# Altium footprint library EECS418_lib.PcbLib: 39 footprints (part 2 of 3)
Each footprint in its own frame and in the unit in brackets; x right, y up, seen from the top. Pads: shape width x height; smd on the part's side, far side on the other; paste and mask are expansions set on the pad; w line width, h text height; cw(c..) or ccw(c..) is an arc to the next point about the centre after c.
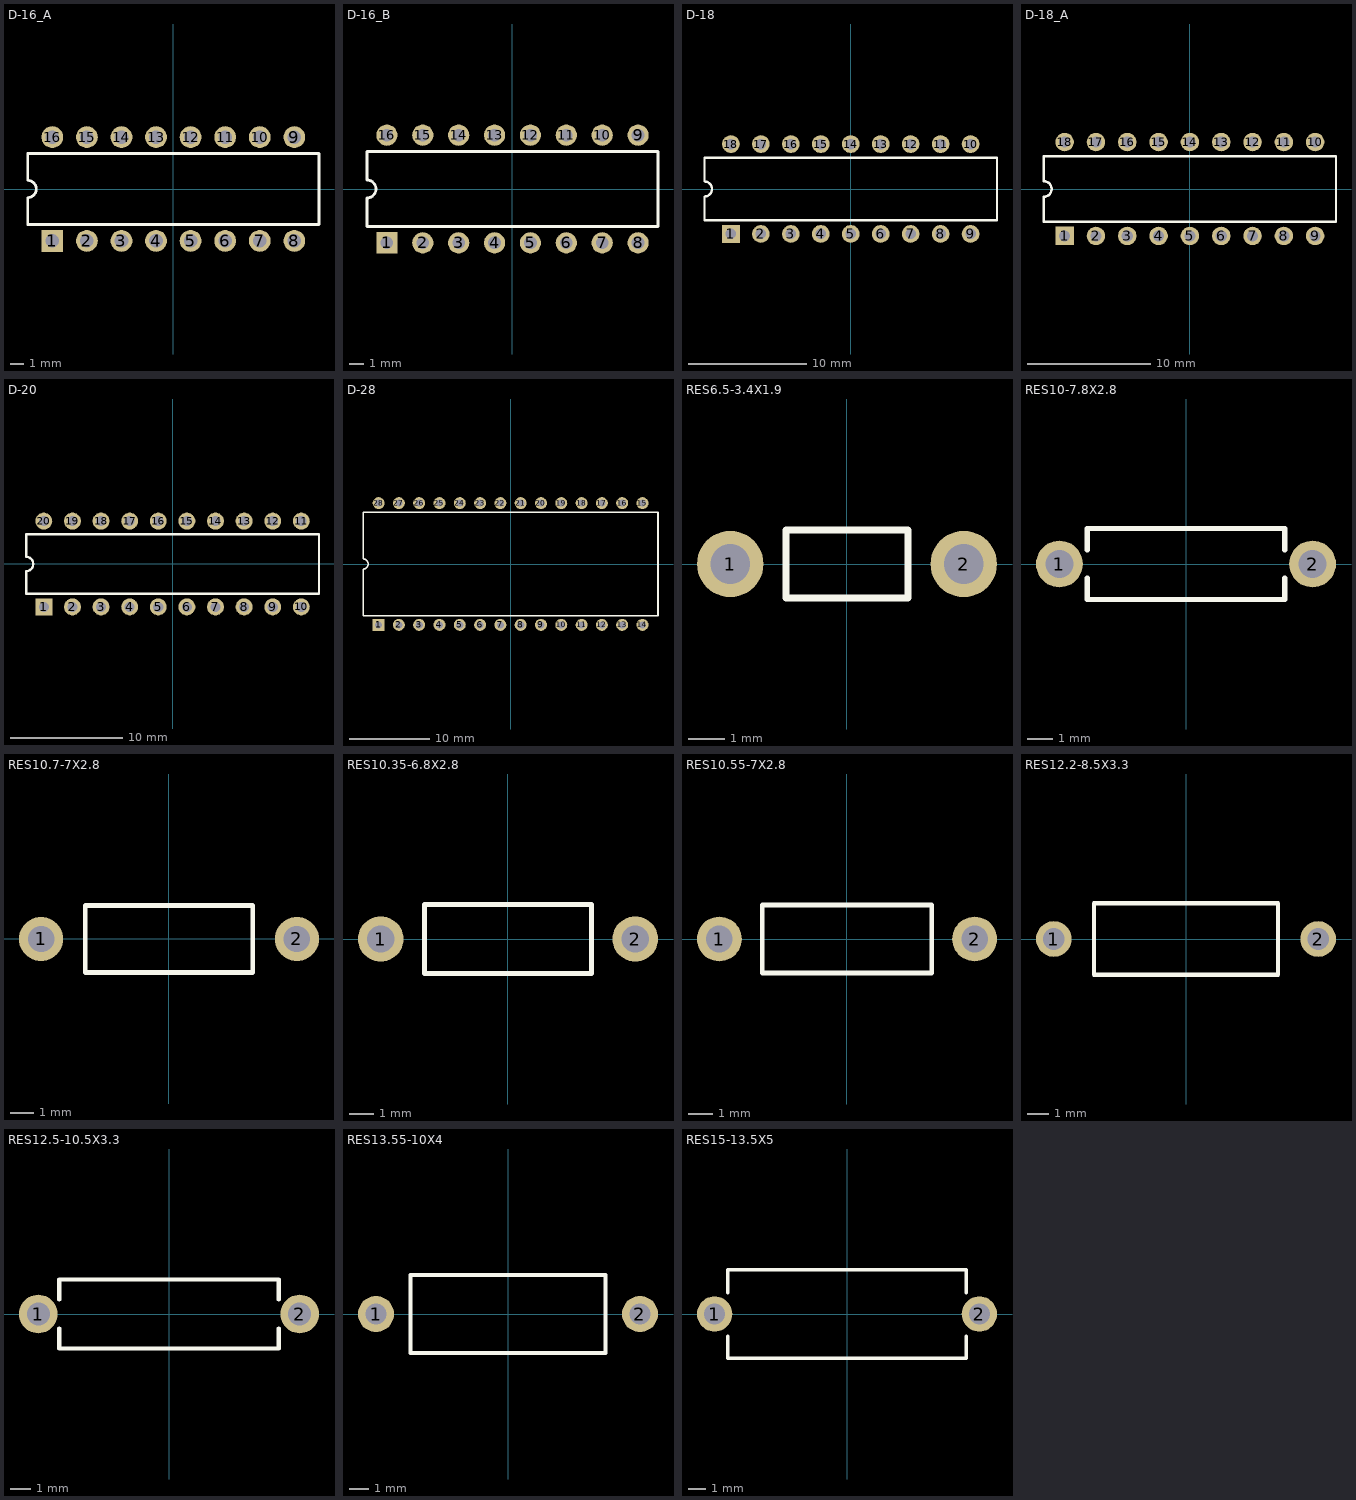
[diagram p1: the footprints below, top view; thin cyan lines are the x and y axes]

## D-16_A [mm] "DIP; 16 Leads; Row Spacing 7.62 mm; Pitch 2.54 mm"
height 5.08
pads (16):
  rect 1.6x1.6 hole 1: 1(-8.89,-3.81)
  round 1.6 hole 1: 2(-6.35,-3.81) 3(-3.81,-3.81) 4(-1.27,-3.81) 5(1.27,-3.81) 6(3.81,-3.81) 7(6.35,-3.81) 8(8.89,-3.81) 9(8.89,3.81) 10(6.35,3.81) 11(3.81,3.81) 12(1.27,3.81) 13(-1.27,3.81) 14(-3.81,3.81) 15(-6.35,3.81) 16(-8.89,3.81)
Top Overlay:
  lines w0.2: -10.7,-2.6 10.7,-2.6 10.7,2.6 -10.7,2.6 -10.7,0.635 cw(c-10.7,0) -10.7,-0.635 -10.7,-2.6

## D-16_B [mm] "DIP; 16 Leads; Row Spacing 7.62 mm; Pitch 2.54 mm"
height 5.08
pads (16):
  rect 1.5x1.5 hole 0.9: 1(-8.89,-3.81)
  round 1.5 hole 0.9: 2(-6.35,-3.81) 3(-3.81,-3.81) 4(-1.27,-3.81) 5(1.27,-3.81) 6(3.81,-3.81) 7(6.35,-3.81) 8(8.89,-3.81) 9(8.89,3.81) 10(6.35,3.81) 11(3.81,3.81) 12(1.27,3.81) 13(-1.27,3.81) 14(-3.81,3.81) 15(-6.35,3.81) 16(-8.89,3.81)
Top Overlay:
  lines w0.2: -10.3,-2.65 10.3,-2.65 10.3,2.65 -10.3,2.65 -10.3,0.635 cw(c-10.3,0) -10.3,-0.635 -10.3,-2.65

## D-18 [mm] "DIP; 18 Leads; Row Spacing 7.62 mm; Pitch 2.54 mm"
height 5.08
pads (18):
  rect 1.5x1.5 hole 0.9: 1(-10.16,-3.81)
  round 1.5 hole 0.9: 2(-7.62,-3.81) 3(-5.08,-3.81) 4(-2.54,-3.81) 5(0,-3.81) 6(2.54,-3.81) 7(5.08,-3.81) 8(7.62,-3.81) 9(10.16,-3.81) 10(10.16,3.81) 11(7.62,3.81) 12(5.08,3.81) 13(2.54,3.81) 14(0,3.81) 15(-2.54,3.81) 16(-5.08,3.81) 17(-7.62,3.81) 18(-10.16,3.81)
Top Overlay:
  lines w0.2: -12.4,-2.65 12.4,-2.65 12.4,2.65 -12.4,2.65 -12.4,0.635 cw(c-12.4,0) -12.4,-0.635 -12.4,-2.65

## D-18_A [mm] "DIP; 18 Leads; Row Spacing 7.62 mm; Pitch 2.54 mm"
height 5.08
pads (18):
  rect 1.5x1.5 hole 0.9: 1(-10.16,-3.81)
  round 1.5 hole 0.9: 2(-7.62,-3.81) 3(-5.08,-3.81) 4(-2.54,-3.81) 5(0,-3.81) 6(2.54,-3.81) 7(5.08,-3.81) 8(7.62,-3.81) 9(10.16,-3.81) 10(10.16,3.81) 11(7.62,3.81) 12(5.08,3.81) 13(2.54,3.81) 14(0,3.81) 15(-2.54,3.81) 16(-5.08,3.81) 17(-7.62,3.81) 18(-10.16,3.81)
Top Overlay:
  lines w0.2: -11.85,-2.65 11.85,-2.65 11.85,2.65 -11.85,2.65 -11.85,0.635 cw(c-11.85,0) -11.85,-0.635 -11.85,-2.65

## D-20 [mm] "DIP; 20 Leads; Row Spacing 7.62 mm; Pitch 2.54 mm"
height 5.08
pads (20):
  rect 1.5x1.5 hole 0.9: 1(-11.43,-3.81)
  round 1.5 hole 0.9: 2(-8.89,-3.81) 3(-6.35,-3.81) 4(-3.81,-3.81) 5(-1.27,-3.81) 6(1.27,-3.81) 7(3.81,-3.81) 8(6.35,-3.81) 9(8.89,-3.81) 10(11.43,-3.81) 11(11.43,3.81) 12(8.89,3.81) 13(6.35,3.81) 14(3.81,3.81) 15(1.27,3.81) 16(-1.27,3.81) 17(-3.81,3.81) 18(-6.35,3.81) 19(-8.89,3.81) 20(-11.43,3.81)
Top Overlay:
  lines w0.2: -13,-2.65 13,-2.65 13,2.65 -13,2.65 -13,0.635 cw(c-13,0) -13,-0.635 -13,-2.65

## D-28 [mm] "DIP; 28 Leads; Row Spacing 15.24 mm; Pitch 2.54 mm"
height 5.72
pads (28):
  rect 1.5x1.5 hole 0.9: 1(-16.51,-7.62)
  round 1.5 hole 0.9: 2(-13.97,-7.62) 3(-11.43,-7.62) 4(-8.89,-7.62) 5(-6.35,-7.62) 6(-3.81,-7.62) 7(-1.27,-7.62) 8(1.27,-7.62) 9(3.81,-7.62) 10(6.35,-7.62) 11(8.89,-7.62) 12(11.43,-7.62) 13(13.97,-7.62) 14(16.51,-7.62) 15(16.51,7.62) 16(13.97,7.62) 17(11.43,7.62) 18(8.89,7.62) 19(6.35,7.62) 20(3.81,7.62) 21(1.27,7.62) 22(-1.27,7.62) 23(-3.81,7.62) 24(-6.35,7.62) 25(-8.89,7.62) 26(-11.43,7.62) 27(-13.97,7.62) 28(-16.51,7.62)
Top Overlay:
  lines w0.2: -18.45,-6.45 18.45,-6.45 18.45,6.45 -18.45,6.45 -18.45,0.635 cw(c-18.45,0) -18.45,-0.635 -18.45,-6.45

## PCBComponent_1 [mm]

## RES6.5-3.4X1.9 [mm] "Resistor, Axial; Body 3.4 x 1.9 mm (LxDia. max), Lead Dia. 0.5 mm (max)"
height 1.9
pads (2):
  round 1.85 hole 1.1: 1(-3.25,0) 2(3.25,0)
Top Overlay:
  lines w0.2: -1.7,-0.95 -1.7,0.95 1.7,0.95 1.7,-0.95 -1.7,-0.95

## RES10-7.8X2.8 [mm] "Resistor, Axial; Body 7.8 x 2.8 mm (LxDia. max), Lead Dia. 0.7 mm (max)"
height 2.8
pads (2):
  round 1.85 hole 1.1: 1(-5,0) 2(5,0)
Top Overlay:
  lines w0.2: -3.9,-0.55 -3.9,-1.4 3.9,-1.4 3.9,-0.55 ; -3.9,0.55 -3.9,1.4 3.9,1.4 3.9,0.55

## RES10.7-7X2.8 [mm] "Resistor, Axial; Body 7 x 2.8 mm (LxDia. max), Lead Dia. 0.7 mm (max)"
height 2.8
pads (2):
  round 1.85 hole 1.1: 1(-5.35,0) 2(5.35,0)
Top Overlay:
  lines w0.2: -3.5,-1.4 -3.5,1.4 3.5,1.4 3.5,-1.4 -3.5,-1.4

## RES10.35-6.8X2.8 [mm] "Resistor, Axial; Body 6.8 x 2.8 mm (LxDia. max), Lead Dia. 0.65 mm (max)"
height 2.8
pads (2):
  round 1.85 hole 1.1: 1(-5.175,0) 2(5.175,0)
Top Overlay:
  lines w0.2: -3.4,-1.4 3.4,-1.4 3.4,1.4 -3.4,1.4 -3.4,-1.4

## RES10.55-7X2.8 [mm] "Resistor, Axial; Body 7 x 2.8 mm (LxDia. max), Lead Dia. 0.65 mm (max)"
height 2.8
pads (2):
  round 1.85 hole 1.1: 1(-5.275,0) 2(5.275,0)
Top Overlay:
  lines w0.2: -3.5,-1.4 -3.5,1.4 3.5,1.4 3.5,-1.4 -3.5,-1.4

## RES12.2-8.5X3.3 [mm] "Resistor, Axial; Body 8.5 x 3.3 mm (LxDia. max), Lead Dia. 0.7 mm (max)"
height 3.3
pads (2):
  round 1.65 hole 1: 1(-6.1,0) 2(6.1,0)
Top Overlay:
  lines w0.2: -4.25,-1.65 -4.25,1.65 4.25,1.65 4.25,-1.65 -4.25,-1.65

## RES12.5-10.5X3.3 [mm] "Resistor, Axial; Body 10.5 x 3.3 mm (LxDia. max), Lead Dia. 0.7 mm (max)"
height 3.3
pads (2):
  round 1.85 hole 1.1: 1(-6.25,0) 2(6.25,0)
Top Overlay:
  lines w0.2: -5.25,-0.7 -5.25,-1.65 5.25,-1.65 5.25,-0.7 ; -5.25,0.7 -5.25,1.65 5.25,1.65 5.25,0.7

## RES13.55-10X4 [mm] "Resistor, Axial; Body 10 x 4 mm (LxDia. max), Lead Dia. 0.65 mm (max)"
height 4
pads (2):
  round 1.85 hole 1.1: 1(-6.775,0) 2(6.775,0)
Top Overlay:
  lines w0.2: -5,-2 5,-2 5,2 -5,2 -5,-2

## RES15-13.5X5 [mm] "Resistor, Axial; Body 13.5 x 5 mm (LxDia. max), Lead Dia. 0.85 mm (max)"
height 5
pads (2):
  round 2 hole 1.2: 1(-7.5,0) 2(7.5,0)
Top Overlay:
  lines w0.2: -6.75,-1.25 -6.75,-2.5 6.75,-2.5 6.75,-1.25 ; -6.75,1.2 -6.75,2.5 6.75,2.5 6.75,1.2